# Altium schematic symbol library WE-PD2.SchLib: 114 symbols (part 2 of 2)
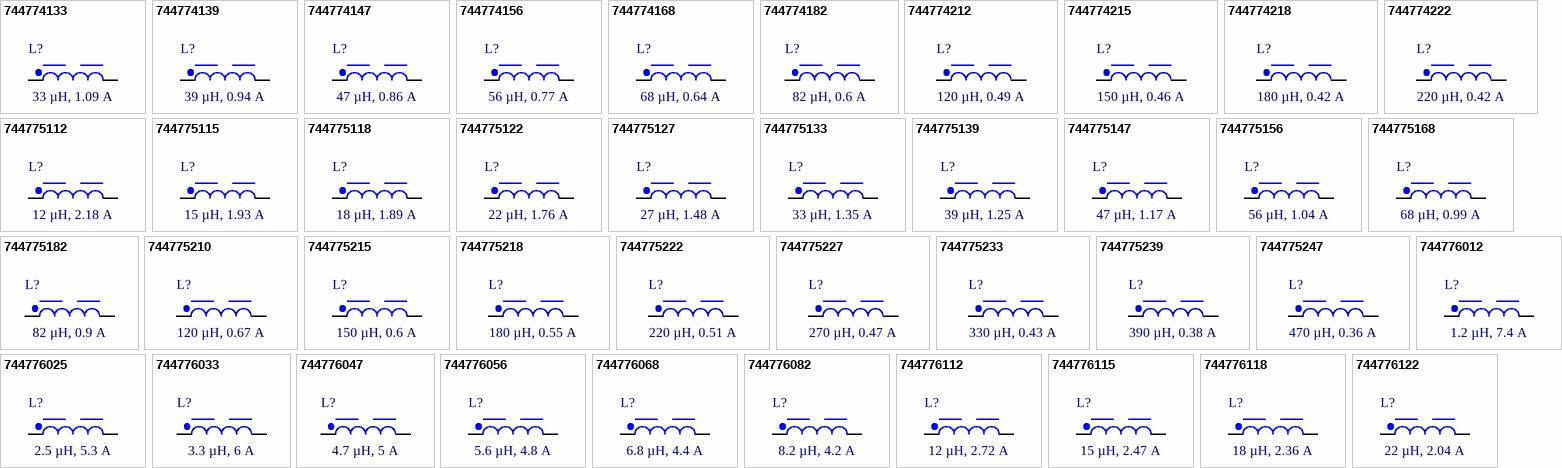
[diagram p3: symbols 744774133 to 744776122]

## 744775147
designator L?, comment 47 µH, 1.17 A
WE-PD2 SMT Power Inductor, size 7850, 47 µH, 1.17 A, 0.134 Ω; Manufacturer Part Number: 744775147; Manufacturer: Wurth Elektronik; Case/Size Code: 7850; DC Resistance Max: 0.134 Ω; Inductance: 47 µH; Rated Current: 1.17 A; Saturation Current @ 10%: 1.24 A; Self Resonant Frequency: 12 MHz; Category: Power Inductors; Match Code: WE-PD2; ComponentLink1Description: Website Link; ComponentLink1URL: https://www.we-online.com/redexpert/article/744775147?ad; ComponentLink2Description: Datasheet Link; ComponentLink2URL: https://www.we-online.com/redexpert/spec/744775147?ad; Mount: Surface Mount; Min Operating Temperature: -40 °C; Max Operating Temperature: 125 °C; Packaging: Tape and Reel; Length: 7.8 mm; Width: 7 mm; Height: 4.95 mm
footprint WE-PD2_7850
simulation model 7850_744775147_47u
pins: 1, 2

## 744775156
designator L?, comment 56 µH, 1.04 A
WE-PD2 SMT Power Inductor, size 7850, 56 µH, 1.04 A, 0.189 Ω; Manufacturer Part Number: 744775156; Manufacturer: Wurth Elektronik; Case/Size Code: 7850; DC Resistance Max: 0.189 Ω; Inductance: 56 µH; Rated Current: 1.04 A; Saturation Current @ 10%: 1.14 A; Self Resonant Frequency: 10.5 MHz; Category: Power Inductors; Match Code: WE-PD2; ComponentLink1Description: Website Link; ComponentLink1URL: https://www.we-online.com/redexpert/article/744775156?ad; ComponentLink2Description: Datasheet Link; ComponentLink2URL: https://www.we-online.com/redexpert/spec/744775156?ad; Mount: Surface Mount; Min Operating Temperature: -40 °C; Max Operating Temperature: 125 °C; Packaging: Tape and Reel; Length: 7.8 mm; Width: 7 mm; Height: 4.95 mm
footprint WE-PD2_7850
simulation model 7850_744775156_56u
pins: 1, 2

## 744775168
designator L?, comment 68 µH, 0.99 A
WE-PD2 SMT Power Inductor, size 7850, 68 µH, 0.99 A, 0.218 Ω; Manufacturer Part Number: 744775168; Manufacturer: Wurth Elektronik; Case/Size Code: 7850; DC Resistance Max: 0.218 Ω; Inductance: 68 µH; Rated Current: 0.99 A; Saturation Current @ 10%: 1.05 A; Self Resonant Frequency: 9.7 MHz; Category: Power Inductors; Match Code: WE-PD2; ComponentLink1Description: Website Link; ComponentLink1URL: https://www.we-online.com/redexpert/article/744775168?ad; ComponentLink2Description: Datasheet Link; ComponentLink2URL: https://www.we-online.com/redexpert/spec/744775168?ad; Mount: Surface Mount; Min Operating Temperature: -40 °C; Max Operating Temperature: 125 °C; Packaging: Tape and Reel; Length: 7.8 mm; Width: 7 mm; Height: 4.95 mm
footprint WE-PD2_7850
simulation model 7850_744775168_68u
pins: 1, 2

## 744775182
designator L?, comment 82 µH, 0.9 A
WE-PD2 SMT Power Inductor, size 7850, 82 µH, 0.9 A, 0.248 Ω; Manufacturer Part Number: 744775182; Manufacturer: Wurth Elektronik; Case/Size Code: 7850; DC Resistance Max: 0.248 Ω; Inductance: 82 µH; Rated Current: 0.9 A; Saturation Current @ 10%: 0.95 A; Self Resonant Frequency: 8.6 MHz; Category: Power Inductors; Match Code: WE-PD2; ComponentLink1Description: Website Link; ComponentLink1URL: https://www.we-online.com/redexpert/article/744775182?ad; ComponentLink2Description: Datasheet Link; ComponentLink2URL: https://www.we-online.com/redexpert/spec/744775182?ad; Mount: Surface Mount; Min Operating Temperature: -40 °C; Max Operating Temperature: 125 °C; Packaging: Tape and Reel; Length: 7.8 mm; Width: 7 mm; Height: 4.95 mm
footprint WE-PD2_7850
simulation model 7850_744775182_82u
pins: 1, 2

## 744775210
designator L?, comment 120 µH, 0.67 A
WE-PD2 SMT Power Inductor, size 7850, 120 µH, 0.67 A, 0.308 Ω; Manufacturer Part Number: 744775210; Manufacturer: Wurth Elektronik; Case/Size Code: 7850; DC Resistance Max: 0.308 Ω; Inductance: 120 µH; Rated Current: 0.67 A; Saturation Current @ 10%: 0.81 A; Self Resonant Frequency: 7 MHz; Category: Power Inductors; Match Code: WE-PD2; ComponentLink1Description: Website Link; ComponentLink1URL: https://www.we-online.com/redexpert/article/744775210?ad; ComponentLink2Description: Datasheet Link; ComponentLink2URL: https://www.we-online.com/redexpert/spec/744775210?ad; Mount: Surface Mount; Min Operating Temperature: -40 °C; Max Operating Temperature: 125 °C; Packaging: Tape and Reel; Length: 7.8 mm; Width: 7 mm; Height: 4.95 mm
footprint WE-PD2_7850
simulation model 7850_744775210_120u
pins: 1, 2

## 744775215
designator L?, comment 150 µH, 0.6 A
WE-PD2 SMT Power Inductor, size 7850, 150 µH, 0.6 A, 0.467 Ω; Manufacturer Part Number: 744775215; Manufacturer: Wurth Elektronik; Case/Size Code: 7850; DC Resistance Max: 0.467 Ω; Inductance: 150 µH; Rated Current: 0.6 A; Saturation Current @ 10%: 0.71 A; Self Resonant Frequency: 6.2 MHz; Category: Power Inductors; Match Code: WE-PD2; ComponentLink1Description: Website Link; ComponentLink1URL: https://www.we-online.com/redexpert/article/744775215?ad; ComponentLink2Description: Datasheet Link; ComponentLink2URL: https://www.we-online.com/redexpert/spec/744775215?ad; Mount: Surface Mount; Min Operating Temperature: -40 °C; Max Operating Temperature: 125 °C; Packaging: Tape and Reel; Length: 7.8 mm; Width: 7 mm; Height: 4.95 mm
footprint WE-PD2_7850
simulation model 7850_744775215_150u
pins: 1, 2

## 744775218
designator L?, comment 180 µH, 0.55 A
WE-PD2 SMT Power Inductor, size 7850, 180 µH, 0.55 A, 0.574 Ω; Manufacturer Part Number: 744775218; Manufacturer: Wurth Elektronik; Case/Size Code: 7850; DC Resistance Max: 0.574 Ω; Inductance: 180 µH; Rated Current: 0.55 A; Saturation Current @ 10%: 0.57 A; Self Resonant Frequency: 5.8 MHz; Category: Power Inductors; Match Code: WE-PD2; ComponentLink1Description: Website Link; ComponentLink1URL: https://www.we-online.com/redexpert/article/744775218?ad; ComponentLink2Description: Datasheet Link; ComponentLink2URL: https://www.we-online.com/redexpert/spec/744775218?ad; Mount: Surface Mount; Min Operating Temperature: -40 °C; Max Operating Temperature: 125 °C; Packaging: Tape and Reel; Length: 7.8 mm; Width: 7 mm; Height: 4.95 mm
footprint WE-PD2_7850
simulation model 7850_744775218_180u
pins: 1, 2

## 744775222
designator L?, comment 220 µH, 0.51 A
WE-PD2 SMT Power Inductor, size 7850, 220 µH, 0.51 A, 0.614 Ω; Manufacturer Part Number: 744775222; Manufacturer: Wurth Elektronik; Case/Size Code: 7850; DC Resistance Max: 0.614 Ω; Inductance: 220 µH; Rated Current: 0.51 A; Saturation Current @ 10%: 0.56 A; Self Resonant Frequency: 5.4 MHz; Category: Power Inductors; Match Code: WE-PD2; ComponentLink1Description: Website Link; ComponentLink1URL: https://www.we-online.com/redexpert/article/744775222?ad; ComponentLink2Description: Datasheet Link; ComponentLink2URL: https://www.we-online.com/redexpert/spec/744775222?ad; Mount: Surface Mount; Min Operating Temperature: -40 °C; Max Operating Temperature: 125 °C; Packaging: Tape and Reel; Length: 7.8 mm; Width: 7 mm; Height: 4.95 mm
footprint WE-PD2_7850
simulation model 7850_744775222_220u
pins: 1, 2

## 744775227
designator L?, comment 270 µH, 0.47 A
WE-PD2 SMT Power Inductor, size 7850, 270 µH, 0.47 A, 0.699 Ω; Manufacturer Part Number: 744775227; Manufacturer: Wurth Elektronik; Case/Size Code: 7850; DC Resistance Max: 0.699 Ω; Inductance: 270 µH; Rated Current: 0.47 A; Saturation Current @ 10%: 0.51 A; Self Resonant Frequency: 4.7 MHz; Category: Power Inductors; Match Code: WE-PD2; ComponentLink1Description: Website Link; ComponentLink1URL: https://www.we-online.com/redexpert/article/744775227?ad; ComponentLink2Description: Datasheet Link; ComponentLink2URL: https://www.we-online.com/redexpert/spec/744775227?ad; Mount: Surface Mount; Min Operating Temperature: -40 °C; Max Operating Temperature: 125 °C; Packaging: Tape and Reel; Length: 7.8 mm; Width: 7 mm; Height: 4.95 mm
footprint WE-PD2_7850
simulation model 7850_744775227_270u
pins: 1, 2

## 744775233
designator L?, comment 330 µH, 0.43 A
WE-PD2 SMT Power Inductor, size 7850, 330 µH, 0.43 A, 0.81 Ω; Manufacturer Part Number: 744775233; Manufacturer: Wurth Elektronik; Case/Size Code: 7850; DC Resistance Max: 0.81 Ω; Inductance: 330 µH; Rated Current: 0.43 A; Saturation Current @ 10%: 0.48 A; Self Resonant Frequency: 4.2 MHz; Category: Power Inductors; Match Code: WE-PD2; ComponentLink1Description: Website Link; ComponentLink1URL: https://www.we-online.com/redexpert/article/744775233?ad; ComponentLink2Description: Datasheet Link; ComponentLink2URL: https://www.we-online.com/redexpert/spec/744775233?ad; Mount: Surface Mount; Min Operating Temperature: -40 °C; Max Operating Temperature: 125 °C; Packaging: Tape and Reel; Length: 7.8 mm; Width: 7 mm; Height: 4.95 mm
footprint WE-PD2_7850
simulation model 7850_744775233_330u
pins: 1, 2

## 744775239
designator L?, comment 390 µH, 0.38 A
WE-PD2 SMT Power Inductor, size 7850, 390 µH, 0.38 A, 1.151 Ω; Manufacturer Part Number: 744775239; Manufacturer: Wurth Elektronik; Case/Size Code: 7850; DC Resistance Max: 1.151 Ω; Inductance: 390 µH; Rated Current: 0.38 A; Saturation Current @ 10%: 0.43 A; Self Resonant Frequency: 3.9 MHz; Category: Power Inductors; Match Code: WE-PD2; ComponentLink1Description: Website Link; ComponentLink1URL: https://www.we-online.com/redexpert/article/744775239?ad; ComponentLink2Description: Datasheet Link; ComponentLink2URL: https://www.we-online.com/redexpert/spec/744775239?ad; Mount: Surface Mount; Min Operating Temperature: -40 °C; Max Operating Temperature: 125 °C; Packaging: Tape and Reel; Length: 7.8 mm; Width: 7 mm; Height: 4.95 mm
footprint WE-PD2_7850
simulation model 7850_744775239_390u
pins: 1, 2

## 744775247
designator L?, comment 470 µH, 0.36 A
WE-PD2 SMT Power Inductor, size 7850, 470 µH, 0.36 A, 1.37 Ω; Manufacturer Part Number: 744775247; Manufacturer: Wurth Elektronik; Case/Size Code: 7850; DC Resistance Max: 1.37 Ω; Inductance: 470 µH; Rated Current: 0.36 A; Saturation Current @ 10%: 0.38 A; Self Resonant Frequency: 3.4 MHz; Category: Power Inductors; Match Code: WE-PD2; ComponentLink1Description: Website Link; ComponentLink1URL: https://www.we-online.com/redexpert/article/744775247?ad; ComponentLink2Description: Datasheet Link; ComponentLink2URL: https://www.we-online.com/redexpert/spec/744775247?ad; Mount: Surface Mount; Min Operating Temperature: -40 °C; Max Operating Temperature: 125 °C; Packaging: Tape and Reel; Length: 7.8 mm; Width: 7 mm; Height: 4.95 mm
footprint WE-PD2_7850
simulation model 7850_744775247_470u
pins: 1, 2

## 744776012
designator L?, comment 1.2 µH, 7.4 A
WE-PD2 SMT Power Inductor, size 1054, 1.2 µH, 7.4 A, 0.004 Ω; Manufacturer Part Number: 744776012; Manufacturer: Wurth Elektronik; Case/Size Code: 1054; DC Resistance Max: 0.004 Ω; Inductance: 1.2 µH; Rated Current: 7.4 A; Saturation Current @ 10%: 11 A; Self Resonant Frequency: 110 MHz; Category: Power Inductors; Match Code: WE-PD2; ComponentLink1Description: Website Link; ComponentLink1URL: https://www.we-online.com/redexpert/article/744776012?ad; ComponentLink2Description: Datasheet Link; ComponentLink2URL: https://www.we-online.com/redexpert/spec/744776012?ad; Mount: Surface Mount; Min Operating Temperature: -40 °C; Max Operating Temperature: 125 °C; Packaging: Tape and Reel; Length: 10 mm; Width: 9 mm; Height: 5.4 mm
footprint WE-PD2_1054
simulation model 1054_744776012_1.2u
pins: 1, 2

## 744776025
designator L?, comment 2.5 µH, 5.3 A
WE-PD2 SMT Power Inductor, size 1054, 2.5 µH, 5.3 A, 0.012 Ω; Manufacturer Part Number: 744776025; Manufacturer: Wurth Elektronik; Case/Size Code: 1054; DC Resistance Max: 0.012 Ω; Inductance: 2.5 µH; Rated Current: 5.3 A; Saturation Current @ 10%: 8 A; Self Resonant Frequency: 65 MHz; Category: Power Inductors; Match Code: WE-PD2; ComponentLink1Description: Website Link; ComponentLink1URL: https://www.we-online.com/redexpert/article/744776025?ad; ComponentLink2Description: Datasheet Link; ComponentLink2URL: https://www.we-online.com/redexpert/spec/744776025?ad; Mount: Surface Mount; Min Operating Temperature: -40 °C; Max Operating Temperature: 125 °C; Packaging: Tape and Reel; Length: 10 mm; Width: 9 mm; Height: 5.4 mm
footprint WE-PD2_1054
pins: 1, 2

## 744776033
designator L?, comment 3.3 µH, 6 A
WE-PD2 SMT Power Inductor, size 1054, 3.3 µH, 6 A, 0.009 Ω; Manufacturer Part Number: 744776033; Manufacturer: Wurth Elektronik; Case/Size Code: 1054; DC Resistance Max: 0.009 Ω; Inductance: 3.3 µH; Rated Current: 6 A; Saturation Current @ 10%: 7 A; Self Resonant Frequency: 45 MHz; Category: Power Inductors; Match Code: WE-PD2; ComponentLink1Description: Website Link; ComponentLink1URL: https://www.we-online.com/redexpert/article/744776033?ad; ComponentLink2Description: Datasheet Link; ComponentLink2URL: https://www.we-online.com/redexpert/spec/744776033?ad; Mount: Surface Mount; Min Operating Temperature: -40 °C; Max Operating Temperature: 125 °C; Packaging: Tape and Reel; Length: 10 mm; Width: 9 mm; Height: 5.4 mm
footprint WE-PD2_1054
simulation model 1054_744776033_3.3u
pins: 1, 2

## 744776047
designator L?, comment 4.7 µH, 5 A
WE-PD2 SMT Power Inductor, size 1054, 4.7 µH, 5 A, 0.012 Ω; Manufacturer Part Number: 744776047; Manufacturer: Wurth Elektronik; Case/Size Code: 1054; DC Resistance Max: 0.012 Ω; Inductance: 4.7 µH; Rated Current: 5 A; Saturation Current @ 10%: 6 A; Self Resonant Frequency: 41 MHz; Category: Power Inductors; Match Code: WE-PD2; ComponentLink1Description: Website Link; ComponentLink1URL: https://www.we-online.com/redexpert/article/744776047?ad; ComponentLink2Description: Datasheet Link; ComponentLink2URL: https://www.we-online.com/redexpert/spec/744776047?ad; Mount: Surface Mount; Min Operating Temperature: -40 °C; Max Operating Temperature: 125 °C; Packaging: Tape and Reel; Length: 10 mm; Width: 9 mm; Height: 5.4 mm
footprint WE-PD2_1054
simulation model 1054_744776047_4.7u
pins: 1, 2

## 744776056
designator L?, comment 5.6 µH, 4.8 A
WE-PD2 SMT Power Inductor, size 1054, 5.6 µH, 4.8 A, 0.015 Ω; Manufacturer Part Number: 744776056; Manufacturer: Wurth Elektronik; Case/Size Code: 1054; DC Resistance Max: 0.015 Ω; Inductance: 5.6 µH; Rated Current: 4.8 A; Saturation Current @ 10%: 5.5 A; Self Resonant Frequency: 38 MHz; Category: Power Inductors; Match Code: WE-PD2; ComponentLink1Description: Website Link; ComponentLink1URL: https://www.we-online.com/redexpert/article/744776056?ad; ComponentLink2Description: Datasheet Link; ComponentLink2URL: https://www.we-online.com/redexpert/spec/744776056?ad; Mount: Surface Mount; Min Operating Temperature: -40 °C; Max Operating Temperature: 125 °C; Packaging: Tape and Reel; Length: 10 mm; Width: 9 mm; Height: 5.4 mm
footprint WE-PD2_1054
simulation model 1054_744776056_5.6u
pins: 1, 2

## 744776068
designator L?, comment 6.8 µH, 4.4 A
WE-PD2 SMT Power Inductor, size 1054, 6.8 µH, 4.4 A, 0.016 Ω; Manufacturer Part Number: 744776068; Manufacturer: Wurth Elektronik; Case/Size Code: 1054; DC Resistance Max: 0.016 Ω; Inductance: 6.8 µH; Rated Current: 4.4 A; Saturation Current @ 10%: 5 A; Self Resonant Frequency: 34 MHz; Category: Power Inductors; Match Code: WE-PD2; ComponentLink1Description: Website Link; ComponentLink1URL: https://www.we-online.com/redexpert/article/744776068?ad; ComponentLink2Description: Datasheet Link; ComponentLink2URL: https://www.we-online.com/redexpert/spec/744776068?ad; Mount: Surface Mount; Min Operating Temperature: -40 °C; Max Operating Temperature: 125 °C; Packaging: Tape and Reel; Length: 10 mm; Width: 9 mm; Height: 5.4 mm
footprint WE-PD2_1054
simulation model 1054_744776068_6.8u
pins: 1, 2

## 744776082
designator L?, comment 8.2 µH, 4.2 A
WE-PD2 SMT Power Inductor, size 1054, 8.2 µH, 4.2 A, 0.02 Ω; Manufacturer Part Number: 744776082; Manufacturer: Wurth Elektronik; Case/Size Code: 1054; DC Resistance Max: 0.02 Ω; Inductance: 8.2 µH; Rated Current: 4.2 A; Saturation Current @ 10%: 4.25 A; Self Resonant Frequency: 25 MHz; Category: Power Inductors; Match Code: WE-PD2; ComponentLink1Description: Website Link; ComponentLink1URL: https://www.we-online.com/redexpert/article/744776082?ad; ComponentLink2Description: Datasheet Link; ComponentLink2URL: https://www.we-online.com/redexpert/spec/744776082?ad; Mount: Surface Mount; Min Operating Temperature: -40 °C; Max Operating Temperature: 125 °C; Packaging: Tape and Reel; Length: 10 mm; Width: 9 mm; Height: 5.4 mm
footprint WE-PD2_1054
simulation model 1054_744776082_8.2u
pins: 1, 2

## 744776112
designator L?, comment 12 µH, 2.72 A
WE-PD2 SMT Power Inductor, size 1054, 12 µH, 2.72 A, 0.033 Ω; Manufacturer Part Number: 744776112; Manufacturer: Wurth Elektronik; Case/Size Code: 1054; DC Resistance Max: 0.033 Ω; Inductance: 12 µH; Rated Current: 2.72 A; Saturation Current @ 10%: 3.15 A; Self Resonant Frequency: 23 MHz; Category: Power Inductors; Match Code: WE-PD2; ComponentLink1Description: Website Link; ComponentLink1URL: https://www.we-online.com/redexpert/article/744776112?ad; ComponentLink2Description: Datasheet Link; ComponentLink2URL: https://www.we-online.com/redexpert/spec/744776112?ad; Mount: Surface Mount; Min Operating Temperature: -40 °C; Max Operating Temperature: 125 °C; Packaging: Tape and Reel; Length: 10 mm; Width: 9 mm; Height: 5.4 mm
footprint WE-PD2_1054
simulation model 1054_744776112_12u
pins: 1, 2

## 744776115
designator L?, comment 15 µH, 2.47 A
WE-PD2 SMT Power Inductor, size 1054, 15 µH, 2.47 A, 0.034 Ω; Manufacturer Part Number: 744776115; Manufacturer: Wurth Elektronik; Case/Size Code: 1054; DC Resistance Max: 0.034 Ω; Inductance: 15 µH; Rated Current: 2.47 A; Saturation Current @ 10%: 2.88 A; Self Resonant Frequency: 20 MHz; Category: Power Inductors; Match Code: WE-PD2; ComponentLink1Description: Website Link; ComponentLink1URL: https://www.we-online.com/redexpert/article/744776115?ad; ComponentLink2Description: Datasheet Link; ComponentLink2URL: https://www.we-online.com/redexpert/spec/744776115?ad; Mount: Surface Mount; Min Operating Temperature: -40 °C; Max Operating Temperature: 125 °C; Packaging: Tape and Reel; Length: 10 mm; Width: 9 mm; Height: 5.4 mm
footprint WE-PD2_1054
simulation model 1054_744776115_15u
pins: 1, 2

## 744776118
designator L?, comment 18 µH, 2.36 A
WE-PD2 SMT Power Inductor, size 1054, 18 µH, 2.36 A, 0.043 Ω; Manufacturer Part Number: 744776118; Manufacturer: Wurth Elektronik; Case/Size Code: 1054; DC Resistance Max: 0.043 Ω; Inductance: 18 µH; Rated Current: 2.36 A; Saturation Current @ 10%: 2.43 A; Self Resonant Frequency: 19 MHz; Category: Power Inductors; Match Code: WE-PD2; ComponentLink1Description: Website Link; ComponentLink1URL: https://www.we-online.com/redexpert/article/744776118?ad; ComponentLink2Description: Datasheet Link; ComponentLink2URL: https://www.we-online.com/redexpert/spec/744776118?ad; Mount: Surface Mount; Min Operating Temperature: -40 °C; Max Operating Temperature: 125 °C; Packaging: Tape and Reel; Length: 10 mm; Width: 9 mm; Height: 5.4 mm
footprint WE-PD2_1054
simulation model 1054_744776118_18u
pins: 1, 2

## 744776122
designator L?, comment 22 µH, 2.04 A
WE-PD2 SMT Power Inductor, size 1054, 22 µH, 2.04 A, 0.051 Ω; Manufacturer Part Number: 744776122; Manufacturer: Wurth Elektronik; Case/Size Code: 1054; DC Resistance Max: 0.051 Ω; Inductance: 22 µH; Rated Current: 2.04 A; Saturation Current @ 10%: 2.07 A; Self Resonant Frequency: 16 MHz; Category: Power Inductors; Match Code: WE-PD2; ComponentLink1Description: Website Link; ComponentLink1URL: https://www.we-online.com/redexpert/article/744776122?ad; ComponentLink2Description: Datasheet Link; ComponentLink2URL: https://www.we-online.com/redexpert/spec/744776122?ad; Mount: Surface Mount; Min Operating Temperature: -40 °C; Max Operating Temperature: 125 °C; Packaging: Tape and Reel; Length: 10 mm; Width: 9 mm; Height: 5.4 mm
footprint WE-PD2_1054
simulation model 1054_744776122_22u
pins: 1, 2

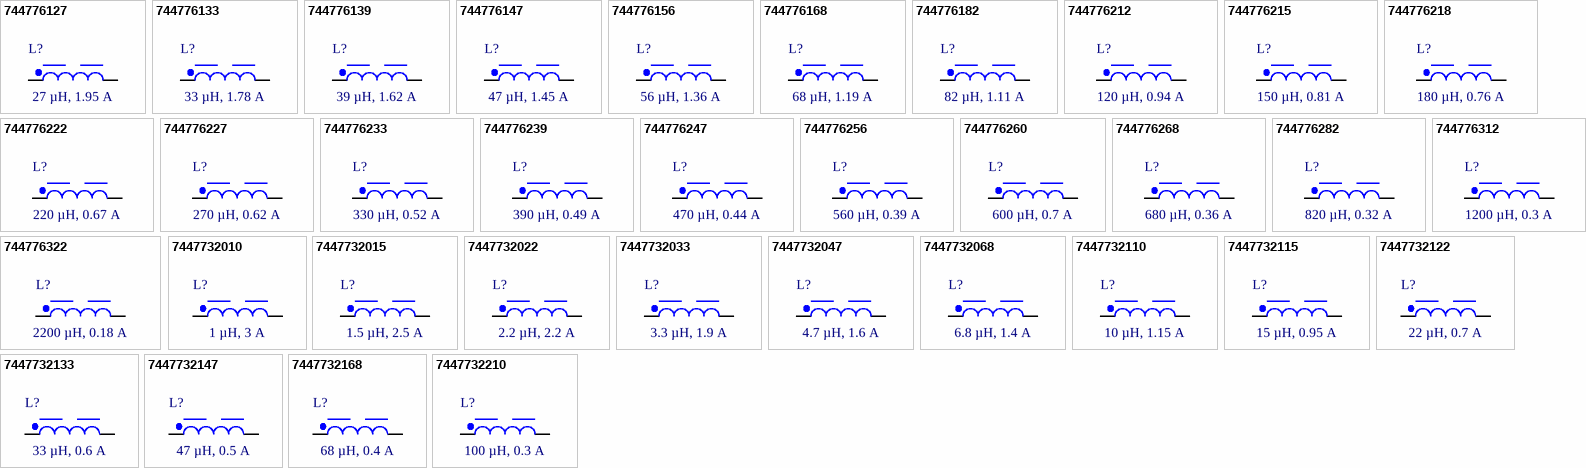
[diagram p2: symbols 744776127 to 7447732210]

## 744776127
designator L?, comment 27 µH, 1.95 A
WE-PD2 SMT Power Inductor, size 1054, 27 µH, 1.95 A, 0.063 Ω; Manufacturer Part Number: 744776127; Manufacturer: Wurth Elektronik; Case/Size Code: 1054; DC Resistance Max: 0.063 Ω; Inductance: 27 µH; Rated Current: 1.95 A; Saturation Current @ 10%: 1.98 A; Self Resonant Frequency: 15 MHz; Category: Power Inductors; Match Code: WE-PD2; ComponentLink1Description: Website Link; ComponentLink1URL: https://www.we-online.com/redexpert/article/744776127?ad; ComponentLink2Description: Datasheet Link; ComponentLink2URL: https://www.we-online.com/redexpert/spec/744776127?ad; Mount: Surface Mount; Min Operating Temperature: -40 °C; Max Operating Temperature: 125 °C; Packaging: Tape and Reel; Length: 10 mm; Width: 9 mm; Height: 5.4 mm
footprint WE-PD2_1054
simulation model 1054_744776127_27u
pins: 1, 2

## 744776133
designator L?, comment 33 µH, 1.78 A
WE-PD2 SMT Power Inductor, size 1054, 33 µH, 1.78 A, 0.083 Ω; Manufacturer Part Number: 744776133; Manufacturer: Wurth Elektronik; Case/Size Code: 1054; DC Resistance Max: 0.083 Ω; Inductance: 33 µH; Rated Current: 1.78 A; Saturation Current @ 10%: 1.89 A; Self Resonant Frequency: 13 MHz; Category: Power Inductors; Match Code: WE-PD2; ComponentLink1Description: Website Link; ComponentLink1URL: https://www.we-online.com/redexpert/article/744776133?ad; ComponentLink2Description: Datasheet Link; ComponentLink2URL: https://www.we-online.com/redexpert/spec/744776133?ad; Mount: Surface Mount; Min Operating Temperature: -40 °C; Max Operating Temperature: 125 °C; Packaging: Tape and Reel; Length: 10 mm; Width: 9 mm; Height: 5.4 mm
footprint WE-PD2_1054
simulation model 1054_744776133_33u
pins: 1, 2

## 744776139
designator L?, comment 39 µH, 1.62 A
WE-PD2 SMT Power Inductor, size 1054, 39 µH, 1.62 A, 0.098 Ω; Manufacturer Part Number: 744776139; Manufacturer: Wurth Elektronik; Case/Size Code: 1054; DC Resistance Max: 0.098 Ω; Inductance: 39 µH; Rated Current: 1.62 A; Saturation Current @ 10%: 1.8 A; Self Resonant Frequency: 12 MHz; Category: Power Inductors; Match Code: WE-PD2; ComponentLink1Description: Website Link; ComponentLink1URL: https://www.we-online.com/redexpert/article/744776139?ad; ComponentLink2Description: Datasheet Link; ComponentLink2URL: https://www.we-online.com/redexpert/spec/744776139?ad; Mount: Surface Mount; Min Operating Temperature: -40 °C; Max Operating Temperature: 125 °C; Packaging: Tape and Reel; Length: 10 mm; Width: 9 mm; Height: 5.4 mm
footprint WE-PD2_1054
simulation model 1054_744776139_39u
pins: 1, 2

## 744776147
designator L?, comment 47 µH, 1.45 A
WE-PD2 SMT Power Inductor, size 1054, 47 µH, 1.45 A, 0.095 Ω; Manufacturer Part Number: 744776147; Manufacturer: Wurth Elektronik; Case/Size Code: 1054; DC Resistance Max: 0.095 Ω; Inductance: 47 µH; Rated Current: 1.45 A; Saturation Current @ 10%: 1.62 A; Self Resonant Frequency: 11 MHz; Category: Power Inductors; Match Code: WE-PD2; ComponentLink1Description: Website Link; ComponentLink1URL: https://www.we-online.com/redexpert/article/744776147?ad; ComponentLink2Description: Datasheet Link; ComponentLink2URL: https://www.we-online.com/redexpert/spec/744776147?ad; Mount: Surface Mount; Min Operating Temperature: -40 °C; Max Operating Temperature: 125 °C; Packaging: Tape and Reel; Length: 10 mm; Width: 9 mm; Height: 5.4 mm
footprint WE-PD2_1054
simulation model 1054_744776147_47u
pins: 1, 2

## 744776156
designator L?, comment 56 µH, 1.36 A
WE-PD2 SMT Power Inductor, size 1054, 56 µH, 1.36 A, 0.112 Ω; Manufacturer Part Number: 744776156; Manufacturer: Wurth Elektronik; Case/Size Code: 1054; DC Resistance Max: 0.112 Ω; Inductance: 56 µH; Rated Current: 1.36 A; Saturation Current @ 10%: 1.53 A; Self Resonant Frequency: 10 MHz; Category: Power Inductors; Match Code: WE-PD2; ComponentLink1Description: Website Link; ComponentLink1URL: https://www.we-online.com/redexpert/article/744776156?ad; ComponentLink2Description: Datasheet Link; ComponentLink2URL: https://www.we-online.com/redexpert/spec/744776156?ad; Mount: Surface Mount; Min Operating Temperature: -40 °C; Max Operating Temperature: 125 °C; Packaging: Tape and Reel; Length: 10 mm; Width: 9 mm; Height: 5.4 mm
footprint WE-PD2_1054
simulation model 1054_744776156_56u
pins: 1, 2

## 744776168
designator L?, comment 68 µH, 1.19 A
WE-PD2 SMT Power Inductor, size 1054, 68 µH, 1.19 A, 0.138 Ω; Manufacturer Part Number: 744776168; Manufacturer: Wurth Elektronik; Case/Size Code: 1054; DC Resistance Max: 0.138 Ω; Inductance: 68 µH; Rated Current: 1.19 A; Saturation Current @ 10%: 1.49 A; Self Resonant Frequency: 9 MHz; Category: Power Inductors; Match Code: WE-PD2; ComponentLink1Description: Website Link; ComponentLink1URL: https://www.we-online.com/redexpert/article/744776168?ad; ComponentLink2Description: Datasheet Link; ComponentLink2URL: https://www.we-online.com/redexpert/spec/744776168?ad; Mount: Surface Mount; Min Operating Temperature: -40 °C; Max Operating Temperature: 125 °C; Packaging: Tape and Reel; Length: 10 mm; Width: 9 mm; Height: 5.4 mm
footprint WE-PD2_1054
simulation model 1054_744776168_68u
pins: 1, 2

## 744776182
designator L?, comment 82 µH, 1.11 A
WE-PD2 SMT Power Inductor, size 1054, 82 µH, 1.11 A, 0.15 Ω; Manufacturer Part Number: 744776182; Manufacturer: Wurth Elektronik; Case/Size Code: 1054; DC Resistance Max: 0.15 Ω; Inductance: 82 µH; Rated Current: 1.11 A; Saturation Current @ 10%: 1.17 A; Self Resonant Frequency: 8 MHz; Category: Power Inductors; Match Code: WE-PD2; ComponentLink1Description: Website Link; ComponentLink1URL: https://www.we-online.com/redexpert/article/744776182?ad; ComponentLink2Description: Datasheet Link; ComponentLink2URL: https://www.we-online.com/redexpert/spec/744776182?ad; Mount: Surface Mount; Min Operating Temperature: -40 °C; Max Operating Temperature: 125 °C; Packaging: Tape and Reel; Length: 10 mm; Width: 9 mm; Height: 5.4 mm
footprint WE-PD2_1054
simulation model 1054_744776182_82u
pins: 1, 2

## 744776212
designator L?, comment 120 µH, 0.94 A
WE-PD2 SMT Power Inductor, size 1054, 120 µH, 0.94 A, 0.243 Ω; Manufacturer Part Number: 744776212; Manufacturer: Wurth Elektronik; Case/Size Code: 1054; DC Resistance Max: 0.243 Ω; Inductance: 120 µH; Rated Current: 0.94 A; Saturation Current @ 10%: 0.99 A; Self Resonant Frequency: 6.5 MHz; Category: Power Inductors; Match Code: WE-PD2; ComponentLink1Description: Website Link; ComponentLink1URL: https://www.we-online.com/redexpert/article/744776212?ad; ComponentLink2Description: Datasheet Link; ComponentLink2URL: https://www.we-online.com/redexpert/spec/744776212?ad; Mount: Surface Mount; Min Operating Temperature: -40 °C; Max Operating Temperature: 125 °C; Packaging: Tape and Reel; Length: 10 mm; Width: 9 mm; Height: 5.4 mm
footprint WE-PD2_1054
simulation model 1054_744776212_120u
pins: 1, 2

## 744776215
designator L?, comment 150 µH, 0.81 A
WE-PD2 SMT Power Inductor, size 1054, 150 µH, 0.81 A, 0.3 Ω; Manufacturer Part Number: 744776215; Manufacturer: Wurth Elektronik; Case/Size Code: 1054; DC Resistance Max: 0.3 Ω; Inductance: 150 µH; Rated Current: 0.81 A; Saturation Current @ 10%: 0.9 A; Self Resonant Frequency: 6 MHz; Category: Power Inductors; Match Code: WE-PD2; ComponentLink1Description: Website Link; ComponentLink1URL: https://www.we-online.com/redexpert/article/744776215?ad; ComponentLink2Description: Datasheet Link; ComponentLink2URL: https://www.we-online.com/redexpert/spec/744776215?ad; Mount: Surface Mount; Min Operating Temperature: -40 °C; Max Operating Temperature: 125 °C; Packaging: Tape and Reel; Length: 10 mm; Width: 9 mm; Height: 5.4 mm
footprint WE-PD2_1054
simulation model 1054_744776215_150u
pins: 1, 2

## 744776218
designator L?, comment 180 µH, 0.76 A
WE-PD2 SMT Power Inductor, size 1054, 180 µH, 0.76 A, 0.32 Ω; Manufacturer Part Number: 744776218; Manufacturer: Wurth Elektronik; Case/Size Code: 1054; DC Resistance Max: 0.32 Ω; Inductance: 180 µH; Rated Current: 0.76 A; Saturation Current @ 10%: 0.78 A; Self Resonant Frequency: 5.4 MHz; Category: Power Inductors; Match Code: WE-PD2; ComponentLink1Description: Website Link; ComponentLink1URL: https://www.we-online.com/redexpert/article/744776218?ad; ComponentLink2Description: Datasheet Link; ComponentLink2URL: https://www.we-online.com/redexpert/spec/744776218?ad; Mount: Surface Mount; Min Operating Temperature: -40 °C; Max Operating Temperature: 125 °C; Packaging: Tape and Reel; Length: 10 mm; Width: 9 mm; Height: 5.4 mm
footprint WE-PD2_1054
simulation model 1054_744776218_180u
pins: 1, 2

## 744776222
designator L?, comment 220 µH, 0.67 A
WE-PD2 SMT Power Inductor, size 1054, 220 µH, 0.67 A, 0.451 Ω; Manufacturer Part Number: 744776222; Manufacturer: Wurth Elektronik; Case/Size Code: 1054; DC Resistance Max: 0.451 Ω; Inductance: 220 µH; Rated Current: 0.67 A; Saturation Current @ 10%: 0.77 A; Self Resonant Frequency: 5 MHz; Category: Power Inductors; Match Code: WE-PD2; ComponentLink1Description: Website Link; ComponentLink1URL: https://www.we-online.com/redexpert/article/744776222?ad; ComponentLink2Description: Datasheet Link; ComponentLink2URL: https://www.we-online.com/redexpert/spec/744776222?ad; Mount: Surface Mount; Min Operating Temperature: -40 °C; Max Operating Temperature: 125 °C; Packaging: Tape and Reel; Length: 10 mm; Width: 9 mm; Height: 5.4 mm
footprint WE-PD2_1054
simulation model 1054_744776222_220u
pins: 1, 2

## 744776227
designator L?, comment 270 µH, 0.62 A
WE-PD2 SMT Power Inductor, size 1054, 270 µH, 0.62 A, 0.5 Ω; Manufacturer Part Number: 744776227; Manufacturer: Wurth Elektronik; Case/Size Code: 1054; DC Resistance Max: 0.5 Ω; Inductance: 270 µH; Rated Current: 0.62 A; Saturation Current @ 10%: 0.68 A; Self Resonant Frequency: 4.3 MHz; Category: Power Inductors; Match Code: WE-PD2; ComponentLink1Description: Website Link; ComponentLink1URL: https://www.we-online.com/redexpert/article/744776227?ad; ComponentLink2Description: Datasheet Link; ComponentLink2URL: https://www.we-online.com/redexpert/spec/744776227?ad; Mount: Surface Mount; Min Operating Temperature: -40 °C; Max Operating Temperature: 125 °C; Packaging: Tape and Reel; Length: 10 mm; Width: 9 mm; Height: 5.4 mm
footprint WE-PD2_1054
simulation model 1054_744776227_270u
pins: 1, 2

## 744776233
designator L?, comment 330 µH, 0.52 A
WE-PD2 SMT Power Inductor, size 1054, 330 µH, 0.52 A, 0.75 Ω; Manufacturer Part Number: 744776233; Manufacturer: Wurth Elektronik; Case/Size Code: 1054; DC Resistance Max: 0.75 Ω; Inductance: 330 µH; Rated Current: 0.52 A; Saturation Current @ 10%: 0.59 A; Self Resonant Frequency: 4.1 MHz; Category: Power Inductors; Match Code: WE-PD2; ComponentLink1Description: Website Link; ComponentLink1URL: https://www.we-online.com/redexpert/article/744776233?ad; ComponentLink2Description: Datasheet Link; ComponentLink2URL: https://www.we-online.com/redexpert/spec/744776233?ad; Mount: Surface Mount; Min Operating Temperature: -40 °C; Max Operating Temperature: 125 °C; Packaging: Tape and Reel; Length: 10 mm; Width: 9 mm; Height: 5.4 mm
footprint WE-PD2_1054
simulation model 1054_744776233_330u
pins: 1, 2

## 744776239
designator L?, comment 390 µH, 0.49 A
WE-PD2 SMT Power Inductor, size 1054, 390 µH, 0.49 A, 0.794 Ω; Manufacturer Part Number: 744776239; Manufacturer: Wurth Elektronik; Case/Size Code: 1054; DC Resistance Max: 0.794 Ω; Inductance: 390 µH; Rated Current: 0.49 A; Saturation Current @ 10%: 0.54 A; Self Resonant Frequency: 3.9 MHz; Category: Power Inductors; Match Code: WE-PD2; ComponentLink1Description: Website Link; ComponentLink1URL: https://www.we-online.com/redexpert/article/744776239?ad; ComponentLink2Description: Datasheet Link; ComponentLink2URL: https://www.we-online.com/redexpert/spec/744776239?ad; Mount: Surface Mount; Min Operating Temperature: -40 °C; Max Operating Temperature: 125 °C; Packaging: Tape and Reel; Length: 10 mm; Width: 9 mm; Height: 5.4 mm
footprint WE-PD2_1054
simulation model 1054_744776239_390u
pins: 1, 2

## 744776247
designator L?, comment 470 µH, 0.44 A
WE-PD2 SMT Power Inductor, size 1054, 470 µH, 0.44 A, 0.969 Ω; Manufacturer Part Number: 744776247; Manufacturer: Wurth Elektronik; Case/Size Code: 1054; DC Resistance Max: 0.969 Ω; Inductance: 470 µH; Rated Current: 0.44 A; Saturation Current @ 10%: 0.5 A; Self Resonant Frequency: 3.4 MHz; Category: Power Inductors; Match Code: WE-PD2; ComponentLink1Description: Website Link; ComponentLink1URL: https://www.we-online.com/redexpert/article/744776247?ad; ComponentLink2Description: Datasheet Link; ComponentLink2URL: https://www.we-online.com/redexpert/spec/744776247?ad; Mount: Surface Mount; Min Operating Temperature: -40 °C; Max Operating Temperature: 125 °C; Packaging: Tape and Reel; Length: 10 mm; Width: 9 mm; Height: 5.4 mm
footprint WE-PD2_1054
simulation model 1054_744776247_470u
pins: 1, 2

## 744776256
designator L?, comment 560 µH, 0.39 A
WE-PD2 SMT Power Inductor, size 1054, 560 µH, 0.39 A, 1.047 Ω; Manufacturer Part Number: 744776256; Manufacturer: Wurth Elektronik; Case/Size Code: 1054; DC Resistance Max: 1.047 Ω; Inductance: 560 µH; Rated Current: 0.39 A; Saturation Current @ 10%: 0.47 A; Self Resonant Frequency: 3 MHz; Category: Power Inductors; Match Code: WE-PD2; ComponentLink1Description: Website Link; ComponentLink1URL: https://www.we-online.com/redexpert/article/744776256?ad; ComponentLink2Description: Datasheet Link; ComponentLink2URL: https://www.we-online.com/redexpert/spec/744776256?ad; Mount: Surface Mount; Min Operating Temperature: -40 °C; Max Operating Temperature: 125 °C; Packaging: Tape and Reel; Length: 10 mm; Width: 9 mm; Height: 5.4 mm
footprint WE-PD2_1054
simulation model 1054_744776256_560u
pins: 1, 2

## 744776260
designator L?, comment 600 µH, 0.7 A
WE-PD2 SMT Power Inductor, size 1054, 600 µH, 0.7 A, 1.17 Ω; Manufacturer Part Number: 744776260; Manufacturer: Wurth Elektronik; Case/Size Code: 1054; DC Resistance Max: 1.17 Ω; Inductance: 600 µH; Rated Current: 0.7 A; Saturation Current @ 10%: 0.6 A; Self Resonant Frequency: 2.9 MHz; Category: Power Inductors; Match Code: WE-PD2; ComponentLink1Description: Website Link; ComponentLink1URL: https://www.we-online.com/redexpert/article/744776260?ad; ComponentLink2Description: Datasheet Link; ComponentLink2URL: https://www.we-online.com/redexpert/spec/744776260?ad; Mount: Surface Mount; Min Operating Temperature: -40 °C; Max Operating Temperature: 125 °C; Packaging: Tape and Reel; Length: 10 mm; Width: 9 mm; Height: 5.4 mm
footprint WE-PD2_1054
simulation model 1054_744776260_600u
pins: 1, 2

## 744776268
designator L?, comment 680 µH, 0.36 A
WE-PD2 SMT Power Inductor, size 1054, 680 µH, 0.36 A, 1.245 Ω; Manufacturer Part Number: 744776268; Manufacturer: Wurth Elektronik; Case/Size Code: 1054; DC Resistance Max: 1.245 Ω; Inductance: 680 µH; Rated Current: 0.36 A; Saturation Current @ 10%: 0.43 A; Self Resonant Frequency: 2.7 MHz; Category: Power Inductors; Match Code: WE-PD2; ComponentLink1Description: Website Link; ComponentLink1URL: https://www.we-online.com/redexpert/article/744776268?ad; ComponentLink2Description: Datasheet Link; ComponentLink2URL: https://www.we-online.com/redexpert/spec/744776268?ad; Mount: Surface Mount; Min Operating Temperature: -40 °C; Max Operating Temperature: 125 °C; Packaging: Tape and Reel; Length: 10 mm; Width: 9 mm; Height: 5.4 mm
footprint WE-PD2_1054
simulation model 1054_744776268_680u
pins: 1, 2

## 744776282
designator L?, comment 820 µH, 0.32 A
WE-PD2 SMT Power Inductor, size 1054, 820 µH, 0.32 A, 1.42 Ω; Manufacturer Part Number: 744776282; Manufacturer: Wurth Elektronik; Case/Size Code: 1054; DC Resistance Max: 1.42 Ω; Inductance: 820 µH; Rated Current: 0.32 A; Saturation Current @ 10%: 0.41 A; Self Resonant Frequency: 2.5 MHz; Category: Power Inductors; Match Code: WE-PD2; ComponentLink1Description: Website Link; ComponentLink1URL: https://www.we-online.com/redexpert/article/744776282?ad; ComponentLink2Description: Datasheet Link; ComponentLink2URL: https://www.we-online.com/redexpert/spec/744776282?ad; Mount: Surface Mount; Min Operating Temperature: -40 °C; Max Operating Temperature: 125 °C; Packaging: Tape and Reel; Length: 10 mm; Width: 9 mm; Height: 5.4 mm
footprint WE-PD2_1054
simulation model 1054_744776282_820u
pins: 1, 2

## 744776312
designator L?, comment 1200 µH, 0.3 A
WE-PD2 SMT Power Inductor, size 1054, 1200 µH, 0.3 A, 2.48 Ω; Manufacturer Part Number: 744776312; Manufacturer: Wurth Elektronik; Case/Size Code: 1054; DC Resistance Max: 2.48 Ω; Inductance: 1200 µH; Rated Current: 0.3 A; Saturation Current @ 10%: 0.38 A; Self Resonant Frequency: 2.1 MHz; Category: Power Inductors; Match Code: WE-PD2; ComponentLink1Description: Website Link; ComponentLink1URL: https://www.we-online.com/redexpert/article/744776312?ad; ComponentLink2Description: Datasheet Link; ComponentLink2URL: https://www.we-online.com/redexpert/spec/744776312?ad; Mount: Surface Mount; Min Operating Temperature: -40 °C; Max Operating Temperature: 125 °C; Packaging: Tape and Reel; Length: 10 mm; Width: 9 mm; Height: 5.4 mm
footprint WE-PD2_1054
simulation model 1054_744776312_1.2m
pins: 1, 2

## 744776322
designator L?, comment 2200 µH, 0.18 A
WE-PD2 SMT Power Inductor, size 1054, 2200 µH, 0.18 A, 4.4 Ω; Manufacturer Part Number: 744776322; Manufacturer: Wurth Elektronik; Case/Size Code: 1054; DC Resistance Max: 4.4 Ω; Inductance: 2200 µH; Rated Current: 0.18 A; Saturation Current @ 10%: 0.26 A; Self Resonant Frequency: 1.4 MHz; Category: Power Inductors; Match Code: WE-PD2; ComponentLink1Description: Website Link; ComponentLink1URL: https://www.we-online.com/redexpert/article/744776322?ad; ComponentLink2Description: Datasheet Link; ComponentLink2URL: https://www.we-online.com/redexpert/spec/744776322?ad; Mount: Surface Mount; Min Operating Temperature: -40 °C; Max Operating Temperature: 125 °C; Packaging: Tape and Reel; Length: 10 mm; Width: 9 mm; Height: 5.4 mm
footprint WE-PD2_1054
simulation model 1054_744776322_2.2m
pins: 1, 2

## 7447732010
designator L?, comment 1 µH, 3 A
WE-PD2 SMT Power Inductor, size 3521, 1 µH, 3 A, 0.039 Ω; Manufacturer Part Number: 7447732010; Manufacturer: Wurth Elektronik; Case/Size Code: 3521; DC Resistance Max: 0.039 Ω; Inductance: 1 µH; Rated Current: 3 A; Saturation Current @ 10%: 3.7 A; Saturation Current @ 30%: 4.3 A; Self Resonant Frequency: 160 MHz; Category: Power Inductors; Match Code: WE-PD2; ComponentLink1Description: Website Link; ComponentLink1URL: https://www.we-online.com/redexpert/article/7447732010?ad; ComponentLink2Description: Datasheet Link; ComponentLink2URL: https://www.we-online.com/redexpert/spec/7447732010?ad; Mount: Surface Mount; Min Operating Temperature: -40 °C; Max Operating Temperature: 125 °C; Packaging: Tape and Reel; Length: 3 mm; Width: 3.5 mm; Height: 2.1 mm
footprint WE-PD2_3521
simulation model 3521_7447732010_1u
pins: 1, 2

## 7447732015
designator L?, comment 1.5 µH, 2.5 A
WE-PD2 SMT Power Inductor, size 3521, 1.5 µH, 2.5 A, 0.054 Ω; Manufacturer Part Number: 7447732015; Manufacturer: Wurth Elektronik; Case/Size Code: 3521; DC Resistance Max: 0.054 Ω; Inductance: 1.5 µH; Rated Current: 2.5 A; Saturation Current @ 10%: 3.05 A; Saturation Current @ 30%: 3.6 A; Self Resonant Frequency: 130 MHz; Category: Power Inductors; Match Code: WE-PD2; ComponentLink1Description: Website Link; ComponentLink1URL: https://www.we-online.com/redexpert/article/7447732015?ad; ComponentLink2Description: Datasheet Link; ComponentLink2URL: https://www.we-online.com/redexpert/spec/7447732015?ad; Mount: Surface Mount; Min Operating Temperature: -40 °C; Max Operating Temperature: 125 °C; Packaging: Tape and Reel; Length: 3 mm; Width: 3.5 mm; Height: 2.1 mm
footprint WE-PD2_3521
simulation model 3521_7447732015_1.5u
pins: 1, 2

## 7447732022
designator L?, comment 2.2 µH, 2.2 A
WE-PD2 SMT Power Inductor, size 3521, 2.2 µH, 2.2 A, 0.07 Ω; Manufacturer Part Number: 7447732022; Manufacturer: Wurth Elektronik; Case/Size Code: 3521; DC Resistance Max: 0.07 Ω; Inductance: 2.2 µH; Rated Current: 2.2 A; Saturation Current @ 10%: 2.54 A; Saturation Current @ 30%: 3 A; Self Resonant Frequency: 100 MHz; Category: Power Inductors; Match Code: WE-PD2; ComponentLink1Description: Website Link; ComponentLink1URL: https://www.we-online.com/redexpert/article/7447732022?ad; ComponentLink2Description: Datasheet Link; ComponentLink2URL: https://www.we-online.com/redexpert/spec/7447732022?ad; Mount: Surface Mount; Min Operating Temperature: -40 °C; Max Operating Temperature: 125 °C; Packaging: Tape and Reel; Length: 3 mm; Width: 3.5 mm; Height: 2.1 mm
footprint WE-PD2_3521
simulation model 3521_7447732022_2.2u
pins: 1, 2

## 7447732033
designator L?, comment 3.3 µH, 1.9 A
WE-PD2 SMT Power Inductor, size 3521, 3.3 µH, 1.9 A, 0.091 Ω; Manufacturer Part Number: 7447732033; Manufacturer: Wurth Elektronik; Case/Size Code: 3521; DC Resistance Max: 0.091 Ω; Inductance: 3.3 µH; Rated Current: 1.9 A; Saturation Current @ 10%: 2.09 A; Saturation Current @ 30%: 2.45 A; Self Resonant Frequency: 80 MHz; Category: Power Inductors; Match Code: WE-PD2; ComponentLink1Description: Website Link; ComponentLink1URL: https://www.we-online.com/redexpert/article/7447732033?ad; ComponentLink2Description: Datasheet Link; ComponentLink2URL: https://www.we-online.com/redexpert/spec/7447732033?ad; Mount: Surface Mount; Min Operating Temperature: -40 °C; Max Operating Temperature: 125 °C; Packaging: Tape and Reel; Length: 3 mm; Width: 3.5 mm; Height: 2.1 mm
footprint WE-PD2_3521
simulation model 3521_7447732033_3.3u
pins: 1, 2

## 7447732047
designator L?, comment 4.7 µH, 1.6 A
WE-PD2 SMT Power Inductor, size 3521, 4.7 µH, 1.6 A, 0.125 Ω; Manufacturer Part Number: 7447732047; Manufacturer: Wurth Elektronik; Case/Size Code: 3521; DC Resistance Max: 0.125 Ω; Inductance: 4.7 µH; Rated Current: 1.6 A; Saturation Current @ 10%: 1.77 A; Saturation Current @ 30%: 2.1 A; Self Resonant Frequency: 70 MHz; Category: Power Inductors; Match Code: WE-PD2; ComponentLink1Description: Website Link; ComponentLink1URL: https://www.we-online.com/redexpert/article/7447732047?ad; ComponentLink2Description: Datasheet Link; ComponentLink2URL: https://www.we-online.com/redexpert/spec/7447732047?ad; Mount: Surface Mount; Min Operating Temperature: -40 °C; Max Operating Temperature: 125 °C; Packaging: Tape and Reel; Length: 3 mm; Width: 3.5 mm; Height: 2.1 mm
footprint WE-PD2_3521
simulation model 3521_7447732047_4.7u
pins: 1, 2

## 7447732068
designator L?, comment 6.8 µH, 1.4 A
WE-PD2 SMT Power Inductor, size 3521, 6.8 µH, 1.4 A, 0.17 Ω; Manufacturer Part Number: 7447732068; Manufacturer: Wurth Elektronik; Case/Size Code: 3521; DC Resistance Max: 0.17 Ω; Inductance: 6.8 µH; Rated Current: 1.4 A; Saturation Current @ 10%: 1.48 A; Saturation Current @ 30%: 1.78 A; Self Resonant Frequency: 55 MHz; Category: Power Inductors; Match Code: WE-PD2; ComponentLink1Description: Website Link; ComponentLink1URL: https://www.we-online.com/redexpert/article/7447732068?ad; ComponentLink2Description: Datasheet Link; ComponentLink2URL: https://www.we-online.com/redexpert/spec/7447732068?ad; Mount: Surface Mount; Min Operating Temperature: -40 °C; Max Operating Temperature: 125 °C; Packaging: Tape and Reel; Length: 3 mm; Width: 3.5 mm; Height: 2.1 mm
footprint WE-PD2_3521
simulation model 3521_7447732068_6.8u
pins: 1, 2

## 7447732110
designator L?, comment 10 µH, 1.15 A
WE-PD2 SMT Power Inductor, size 3521, 10 µH, 1.15 A, 0.237 Ω; Manufacturer Part Number: 7447732110; Manufacturer: Wurth Elektronik; Case/Size Code: 3521; DC Resistance Max: 0.237 Ω; Inductance: 10 µH; Rated Current: 1.15 A; Saturation Current @ 10%: 1.23 A; Saturation Current @ 30%: 1.45 A; Self Resonant Frequency: 45 MHz; Category: Power Inductors; Match Code: WE-PD2; ComponentLink1Description: Website Link; ComponentLink1URL: https://www.we-online.com/redexpert/article/7447732110?ad; ComponentLink2Description: Datasheet Link; ComponentLink2URL: https://www.we-online.com/redexpert/spec/7447732110?ad; Mount: Surface Mount; Min Operating Temperature: -40 °C; Max Operating Temperature: 125 °C; Packaging: Tape and Reel; Length: 3 mm; Width: 3.5 mm; Height: 2.1 mm
footprint WE-PD2_3521
simulation model 3521_7447732110_10u
pins: 1, 2

## 7447732115
designator L?, comment 15 µH, 0.95 A
WE-PD2 SMT Power Inductor, size 3521, 15 µH, 0.95 A, 0.347 Ω; Manufacturer Part Number: 7447732115; Manufacturer: Wurth Elektronik; Case/Size Code: 3521; DC Resistance Max: 0.347 Ω; Inductance: 15 µH; Rated Current: 0.95 A; Saturation Current @ 10%: 1.01 A; Saturation Current @ 30%: 1.18 A; Self Resonant Frequency: 36 MHz; Category: Power Inductors; Match Code: WE-PD2; ComponentLink1Description: Website Link; ComponentLink1URL: https://www.we-online.com/redexpert/article/7447732115?ad; ComponentLink2Description: Datasheet Link; ComponentLink2URL: https://www.we-online.com/redexpert/spec/7447732115?ad; Mount: Surface Mount; Min Operating Temperature: -40 °C; Max Operating Temperature: 125 °C; Packaging: Tape and Reel; Length: 3 mm; Width: 3.5 mm; Height: 2.1 mm
footprint WE-PD2_3521
simulation model 3521_7447732115_15u
pins: 1, 2

## 7447732122
designator L?, comment 22 µH, 0.7 A
WE-PD2 SMT Power Inductor, size 3521, 22 µH, 0.7 A, 0.561 Ω; Manufacturer Part Number: 7447732122; Manufacturer: Wurth Elektronik; Case/Size Code: 3521; DC Resistance Max: 0.561 Ω; Inductance: 22 µH; Rated Current: 0.7 A; Saturation Current @ 10%: 0.84 A; Saturation Current @ 30%: 0.97 A; Self Resonant Frequency: 28 MHz; Category: Power Inductors; Match Code: WE-PD2; ComponentLink1Description: Website Link; ComponentLink1URL: https://www.we-online.com/redexpert/article/7447732122?ad; ComponentLink2Description: Datasheet Link; ComponentLink2URL: https://www.we-online.com/redexpert/spec/7447732122?ad; Mount: Surface Mount; Min Operating Temperature: -40 °C; Max Operating Temperature: 125 °C; Packaging: Tape and Reel; Length: 3 mm; Width: 3.5 mm; Height: 2.1 mm
footprint WE-PD2_3521
simulation model 3521_7447732122_22u
pins: 1, 2

## 7447732133
designator L?, comment 33 µH, 0.6 A
WE-PD2 SMT Power Inductor, size 3521, 33 µH, 0.6 A, 0.778 Ω; Manufacturer Part Number: 7447732133; Manufacturer: Wurth Elektronik; Case/Size Code: 3521; DC Resistance Max: 0.778 Ω; Inductance: 33 µH; Rated Current: 0.6 A; Saturation Current @ 10%: 0.7 A; Saturation Current @ 30%: 0.83 A; Self Resonant Frequency: 24 MHz; Category: Power Inductors; Match Code: WE-PD2; ComponentLink1Description: Website Link; ComponentLink1URL: https://www.we-online.com/redexpert/article/7447732133?ad; ComponentLink2Description: Datasheet Link; ComponentLink2URL: https://www.we-online.com/redexpert/spec/7447732133?ad; Mount: Surface Mount; Min Operating Temperature: -40 °C; Max Operating Temperature: 125 °C; Packaging: Tape and Reel; Length: 3 mm; Width: 3.5 mm; Height: 2.1 mm
footprint WE-PD2_3521
simulation model 3521_7447732133_33u
pins: 1, 2

## 7447732147
designator L?, comment 47 µH, 0.5 A
WE-PD2 SMT Power Inductor, size 3521, 47 µH, 0.5 A, 1.11 Ω; Manufacturer Part Number: 7447732147; Manufacturer: Wurth Elektronik; Case/Size Code: 3521; DC Resistance Max: 1.11 Ω; Inductance: 47 µH; Rated Current: 0.5 A; Saturation Current @ 10%: 0.59 A; Saturation Current @ 30%: 0.69 A; Self Resonant Frequency: 20 MHz; Category: Power Inductors; Match Code: WE-PD2; ComponentLink1Description: Website Link; ComponentLink1URL: https://www.we-online.com/redexpert/article/7447732147?ad; ComponentLink2Description: Datasheet Link; ComponentLink2URL: https://www.we-online.com/redexpert/spec/7447732147?ad; Mount: Surface Mount; Min Operating Temperature: -40 °C; Max Operating Temperature: 125 °C; Packaging: Tape and Reel; Length: 3 mm; Width: 3.5 mm; Height: 2.1 mm
footprint WE-PD2_3521
simulation model 3521_7447732147_47u
pins: 1, 2

## 7447732168
designator L?, comment 68 µH, 0.4 A
WE-PD2 SMT Power Inductor, size 3521, 68 µH, 0.4 A, 1.57 Ω; Manufacturer Part Number: 7447732168; Manufacturer: Wurth Elektronik; Case/Size Code: 3521; DC Resistance Max: 1.57 Ω; Inductance: 68 µH; Rated Current: 0.4 A; Saturation Current @ 10%: 0.49 A; Saturation Current @ 30%: 0.57 A; Self Resonant Frequency: 16 MHz; Category: Power Inductors; Match Code: WE-PD2; ComponentLink1Description: Website Link; ComponentLink1URL: https://www.we-online.com/redexpert/article/7447732168?ad; ComponentLink2Description: Datasheet Link; ComponentLink2URL: https://www.we-online.com/redexpert/spec/7447732168?ad; Mount: Surface Mount; Min Operating Temperature: -40 °C; Max Operating Temperature: 125 °C; Packaging: Tape and Reel; Length: 3 mm; Width: 3.5 mm; Height: 2.1 mm
footprint WE-PD2_3521
simulation model 3521_7447732168_68u
pins: 1, 2

## 7447732210
designator L?, comment 100 µH, 0.3 A
WE-PD2 SMT Power Inductor, size 3521, 100 µH, 0.3 A, 2.42 Ω; Manufacturer Part Number: 7447732210; Manufacturer: Wurth Elektronik; Case/Size Code: 3521; DC Resistance Max: 2.42 Ω; Inductance: 100 µH; Rated Current: 0.3 A; Saturation Current @ 10%: 0.41 A; Saturation Current @ 30%: 0.47 A; Self Resonant Frequency: 12 MHz; Category: Power Inductors; Match Code: WE-PD2; ComponentLink1Description: Website Link; ComponentLink1URL: https://www.we-online.com/redexpert/article/7447732210?ad; ComponentLink2Description: Datasheet Link; ComponentLink2URL: https://www.we-online.com/redexpert/spec/7447732210?ad; Mount: Surface Mount; Min Operating Temperature: -40 °C; Max Operating Temperature: 125 °C; Packaging: Tape and Reel; Length: 3 mm; Width: 3.5 mm; Height: 2.1 mm
footprint WE-PD2_3521
simulation model 3521_7447732210_100u
pins: 1, 2